# EAGLE library part TEXAS_INSTRUMENTS-ESD_SUPPRESSOR-TPD4E004_DRY_6 (library Module_Regulators)
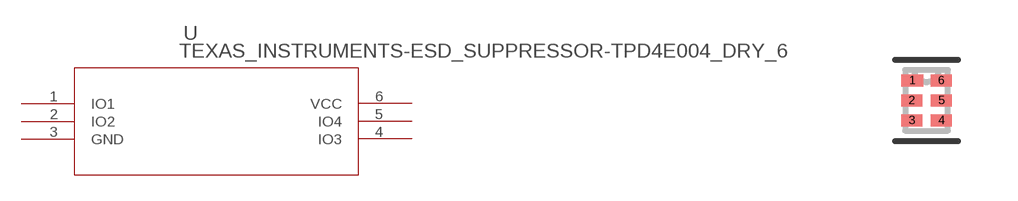
[diagram p13: symbol with the pads of TEXAS_INSTRUMENTS-ESD_SUPPRESSOR-TPD4E004_DRY_6/SUPERVISOR_MONITOR-TPS3897_DRY_6; footprint TEXAS_INSTRUMENTS-ESD_SUPPRESSOR-TPD4E004_DRY_6/SUPERVISOR_MONITOR-TPS3897_DRY_6]

Designator prefix U

## TEXAS_INSTRUMENTS-ESD_SUPPRESSOR-TPD4E004_DRY_6 (DATASHEETURL: httpwww.ti.comlitgpnTPD4E004; FAMILY_NAME: ESD Solution; GENERIC_PART_NUMBER: TPD4E004; INDUSTRY_STD_PKG_TYPE: SON; MANUFACTURER: Texas Instruments; MANUFACTURER_PART_NUMBER: tpd4e004_dry_6; PACKAGE_DESIGNATOR: DRY; PIN_COUNT: 6; VENDOR: Texas Instruments)  [TEXAS_INSTRUMENTS-ESD_SUPPRESSOR-TPD4E004_DRY_6/SUPERVISOR_MONITOR-TPS3897_DRY_6]
1  IO1  pas
2  IO2  pas
3  GND  pwr
4  IO3  pas
5  IO4  pas
6  VCC  pwr

## Footprint TEXAS_INSTRUMENTS-ESD_SUPPRESSOR-TPD4E004_DRY_6/SUPERVISOR_MONITOR-TPS3897_DRY_6 (pad centres in mm)
smd 0.55 x 0.3: 1 -0.355,0.5
smd 0.52 x 0.3: 2 -0.37,0; 3 -0.37,-0.5; 4 0.37,-0.5; 5 0.37,0; 6 0.37,0.5